# Altium schematic symbol library SCH - DRIVER - LED - TI TLC5946_RHB_32.SchLib: 1 symbol
Pins are listed as number, name and electrical type; pins without a type are passive.

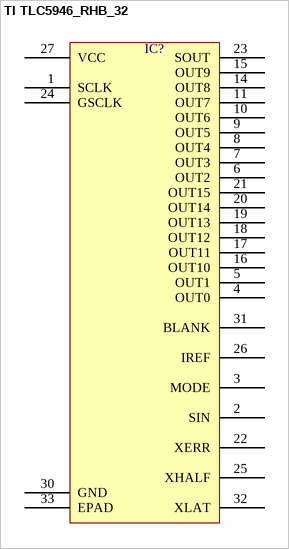
[diagram p0: symbol TI TLC5946_RHB_32]

## TI TLC5946_RHB_32
designator IC?  (value not drawn)
pins: 1 SCLK, 2 SIN, 3 MODE, 4 OUT0, 5 OUT1, 6 OUT2, 7 OUT3, 8 OUT4, 9 OUT5, 10 OUT6, 11 OUT7, 14 OUT8, 15 OUT9, 16 OUT10, 17 OUT11, 18 OUT12, 19 OUT13, 20 OUT14, 21 OUT15, 22 XERR, 23 SOUT, 24 GSCLK, 25 XHALF, 26 IREF, 27 VCC, 30 GND, 31 BLANK, 32 XLAT, 33 EPAD